# EAGLE library part SFV15R-1STE1LF (library FCI_By_element14_Batch_1)
FFC/FPC CONNECTOR, RECEPTACLE 15POS 1ROW
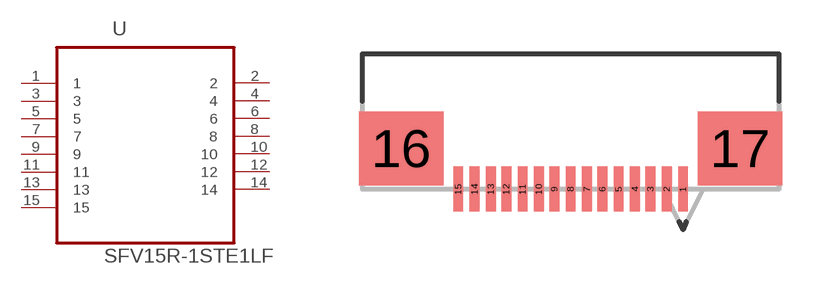
[diagram p49: symbol with the pads of FCI_SFV15R-1STE1LF; footprint FCI_SFV15R-1STE1LF]

Designator prefix U

## SFV15R-1STE1LF (MPN: SFV15R-1STE1LF; OC_FARNELL: -; OC_NEWARK: 62K5572; PACKAGE: CONNECTOR-15POS; SUPPLIER: FCI)  [FCI_SFV15R-1STE1LF]
1  1  pas
2  2  pas
3  3  pas
4  4  pas
5  5  pas
6  6  pas
7  7  pas
8  8  pas
9  9  pas
10  10  pas
11  11  pas
12  12  pas
13  13  pas
14  14  pas
15  15  pas

## Footprint FCI_SFV15R-1STE1LF (pad centres in mm)
smd 0.305 x 1.397: 1 3.505,2.083; 2 2.997,2.083; 3 2.489,2.083; 4 2.007,2.083; 5 1.499,2.083; 6 0.991,2.083; 7 0.508,2.083; 8 0,2.083; 9 -0.508,2.083; 10 -0.991,2.083; 11 -1.499,2.083; 12 -2.007,2.083; 13 -2.489,2.083; 14 -2.997,2.083; 15 -3.505,2.083
smd 2.642 x 2.311: 16 -5.283,3.353; 17 5.283,3.353